# EAGLE library part PINHD-2X5/0.050-NO7 (library headers)
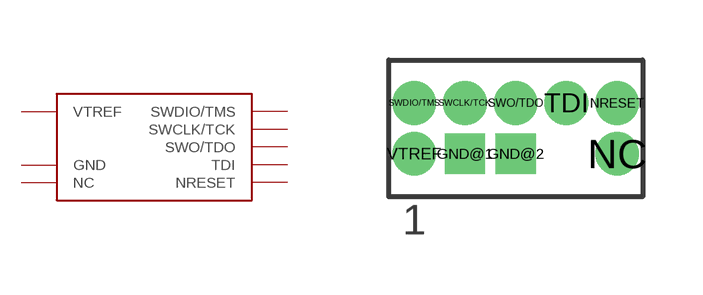
[diagram p11: symbol with the pads of 2X5-0.050-NO7; footprint 2X5-0.050-NO7]

Designator prefix J

## PINHD-2X5/0.050-NO7 (DIGIKEY: 609-3712-ND)  [2X5-0.050-NO7]
GND@1  GND
GND@2  GND
NC  NC
NRESET  NRESET
SWCLK/TCK  SWCLK/TCK
SWDIO/TMS  SWDIO/TMS
SWO/TDO  SWO/TDO
TDI  TDI
VTREF  VTREF

## Footprint 2X5-0.050-NO7 (pad centres in mm)
drill 0.5 square: GND@1 -2.54,0; GND@2 -1.27,0
drill 0.584: NC 1.27,0; NRESET 1.27,1.27; SWCLK/TCK -2.54,1.27; SWDIO/TMS -3.81,1.27; SWO/TDO -1.27,1.27; TDI 0,1.27; VTREF -3.81,0